# Altium schematic symbol library ardino header pins.SchLib: 4 symbols
Pins are listed as number, name and electrical type; pins without a type are passive.

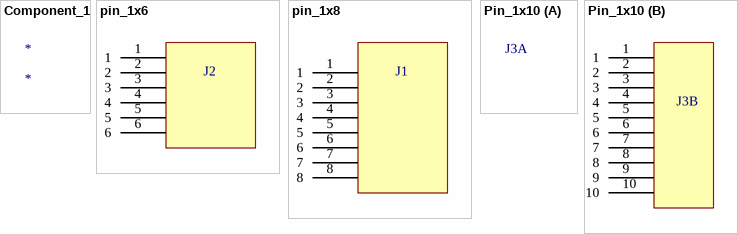
[diagram p0: symbols Component_1 to Pin_1x10]

## Component_1
designator *

## pin_1x6
designator J2
footprint Pin1x6_2.54mm
pins: 1, 2, 3, 4, 5, 6

## pin_1x8
designator J1
footprint Pin_1x8_2.54mm
pins: 1, 2, 3, 4, 5, 6, 7, 8

## Pin_1x10
designator J3
footprint Pin_1x10_2.54mm
part B pins: 1, 2, 3, 4, 5, 6, 7, 8, 9, 10